# Altium schematic symbol library CH330.SchLib: 9 symbols
Pins are listed as number, name and electrical type; pins without a type are passive.

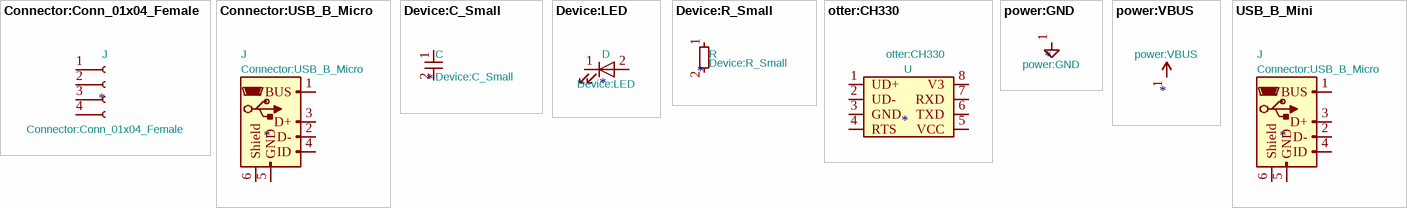
[diagram p0: symbols Connector:Conn_01x04_Female to USB_B_Mini]

## Connector:Conn_01x04_Female
designator J  value Connector:Conn_01x04_Female
pins: 1 Pin_1, 2 Pin_2, 3 Pin_3, 4 Pin_4

## Connector:USB_B_Micro
designator J  value Connector:USB_B_Micro
pins: 1 VBUS, 2 D-, 3 D+, 4 ID, 5 GND, 6 Shield

## Device:C_Small
designator C  value Device:C_Small
pins: 1, 2

## Device:LED
designator D  value Device:LED
pins: 1 K, 2 A

## Device:R_Small
designator R  value Device:R_Small
pins: 1, 2

## otter:CH330
designator U  value otter:CH330
pins: 1 UD+, 2 UD-, 3 GND, 4 RTS, 5 VCC, 6 TXD, 7 RXD, 8 V3

## power:GND
designator #PWR  value power:GND
pins: 1 GND

## power:VBUS
designator #PWR  value power:VBUS
pins: 1 VBUS

## USB_B_Mini
designator J  value Connector:USB_B_Micro
pins: 1 VBUS, 2 D-, 3 D+, 4 ID, 5 GND, 6 Shield